# Altium integrated library FK723MK1_ZGT6_Large.IntLib: 10 symbols
Pins are listed as number, name and electrical type; pins without a type are passive.

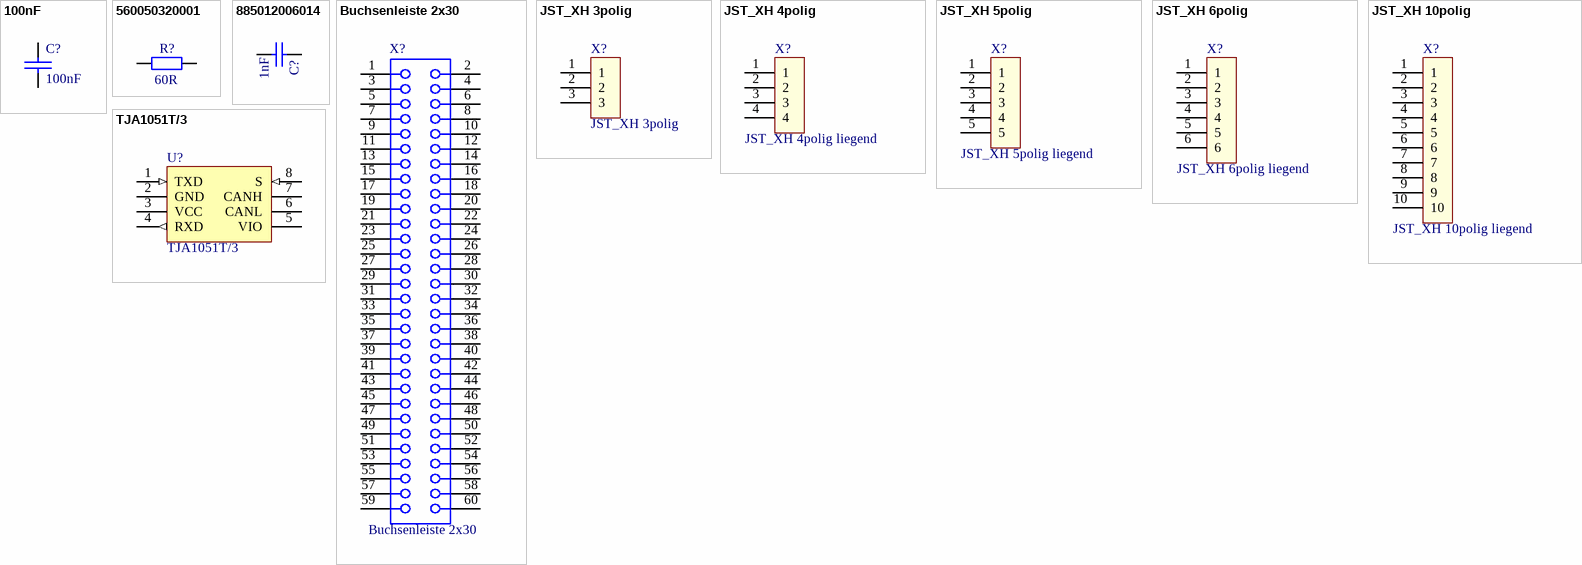
[diagram p0: symbols 100nF to TJA1051T/3]

## 100nF
designator C?
100nF 16V 10% 0402; Trumpf Nr.: 1606554
footprint 0402 (Chip Capacitor, 2-Leads, Body 3.50x2.50mm, IPC Medium Density)
footprint 0603 (Chip Capacitor, 2-Leads, Body 3.50x2.50mm, IPC Medium Density)
footprint 0805 (Chip Capacitor, 2-Leads, Body 3.50x2.50mm, IPC Medium Density)
footprint 1206 (Chip Capacitor, 2-Leads, Body 3.50x2.50mm, IPC Medium Density)
footprint 1210 (Chip Capacitor, 2-Leads, Body 3.50x2.50mm, IPC Medium Density)
footprint 0201 (Chip Capacitor, 2-Leads, Body 3.50x2.50mm, IPC Medium Density)
pins: 1, 2

## 560050320001
designator R?, comment 60R
WRIS-KSKE Thick Film Resistor, SMT, size 0805, 0.1Ω, 0.33W, +/-1%; Manufacturer Part Number: 560050320001; Manufacturer: Wurth Elektronik; Case/Size Code: 0805; Rated Current: 1.81A; Temperature Coefficient of Resistance Max: 250ppm/°C; Category: Thick Film Resistors; Match Code: WRIS-KSKE; ComponentLink1Description: Website Link; ComponentLink1URL: https://www.we-online.com/redexpert/article/560050320001?ad; ComponentLink2Description: Datasheet Link; ComponentLink2URL: https://www.we-online.com/redexpert/spec/560050320001?ad; Mount: Surface Mount; Min Operating Temperature: -55°C; Max Operating Temperature: 155°C; Packaging: Tape and Reel; Length: 2mm; Width: 1.25mm; Height: 0.6mm; Rated Power: 0.33W; Resistance: 0.1Ω; Resistance Tolerance: +/-1%
footprint WRIS-KSKE_0805
pins: 1, 2

## 885012006014
designator C?, comment 1nF
WCAP-CSGP Multilayer Ceramic Chip Capacitor, General Purpose, size 0603, 1nF, 10V; Manufacturer Part Number: 885012006014; Manufacturer: Wurth Elektronik; Case/Size Code: 0603; Capacitance Tolerance: +/-5%; Ceramic Type: NP0; Insulation Resistance: 10GΩ; Q Factor: 1000; Technical Reference: NP00603102J010DFCT10000; Category: Multilayer Ceramic Chip Capacitors; Match Code: WCAP-CSGP; ComponentLink1Description: Website Link; ComponentLink1URL: https://www.we-online.com/redexpert/article/885012006014?ad; ComponentLink2Description: Datasheet Link; ComponentLink2URL: https://www.we-online.com/redexpert/spec/885012006014?ad; Mount: Surface Mount; Min Operating Temperature: -55°C; Max Operating Temperature: 125°C; Packaging: Tape and Reel; Length: 1.6mm; Width: 0.8mm; Height: 0.8mm; Capacitance: 1nF; Rated Voltage (DC): 10V
footprint WCAP-CSGP_0603_L1.6W0.8H0.8_Reflow
footprint WCAP-CSGP_0603_L1.6W0.8H0.8_Wave
simulation model 0603_885012006014_1nF
pins: 1, 2

## Buchsenleiste 2x30
designator X?
footprint Buchsenleiste 2x30polig
pins: 1, 2, 3, 4, 5, 6, 7, 8, 9, 10, 11, 12, 13, 14, 15, 16, 17, 18, 19, 20, 21, 22, 23, 24, 25, 26, 27, 28, 29, 30, 31, 32, 33, 34, 35, 36, 37, 38, 39, 40, 41, 42, 43, 44, 45, 46, 47, 48, 49, 50, 51, 52, 53, 54, 55, 56, 57, 58, 59, 60

## JST_XH 3polig
designator X?
footprint JST_XH 3polig, liegend
pins: 1, 2, 3

## JST_XH 4polig
designator X?, comment JST_XH 4polig liegend
footprint JST_XH 4polig, liegend
pins: 1, 2, 3, 4

## JST_XH 5polig
designator X?, comment JST_XH 5polig liegend
footprint JST_XH 5polig, liegend
pins: 1, 2, 3, 4, 5

## JST_XH 6polig
designator X?, comment JST_XH 6polig liegend
footprint JST_XH 6polig, liegend
pins: 1, 2, 3, 4, 5, 6

## JST_XH 10polig
designator X?, comment JST_XH 10polig liegend
footprint JST_XH 10polig, liegend
pins: 1, 2, 3, 4, 5, 6, 7, 8, 9, 10

## TJA1051T/3
designator U?
footprint SO-8
pins: 1 TXD (in), 2 GND (power), 3 VCC (power), 4 RXD (out), 5 VIO (power), 6 CANL, 7 CANH, 8 S (in)